# Altium schematic symbol library 47346-0001.Schlib: 1 symbol
Pins are listed as number, name and electrical type; pins without a type are passive.

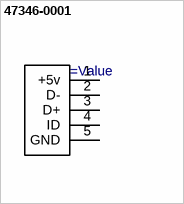
[diagram p0: symbol 47346-0001]

## 47346-0001
designator J?
CONN RCPT 5POS MICRO USB R/A
pins: 1 +5v, 2 D-, 3 D+, 4 ID, 5 GND